# EAGLE library part NUCLEO_L432KC (library nucleo32.Ibr)
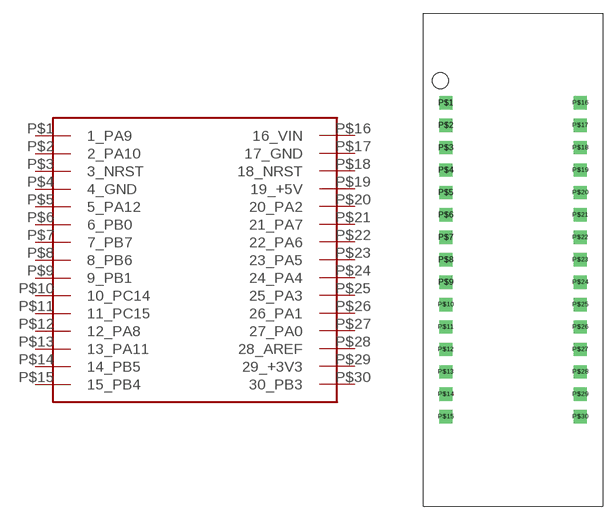
[diagram p0: symbol with the pads of NUCLEO_L432KC; footprint NUCLEO_L432KC]

Designator prefix -

## NUCLEO_L432KC  [NUCLEO_L432KC]
P$1  1_PA9
P$2  2_PA10
P$3  3_NRST
P$4  4_GND  pwr
P$5  5_PA12
P$6  6_PB0
P$7  7_PB7
P$8  8_PB6
P$9  9_PB1
P$10  10_PC14
P$11  11_PC15
P$12  12_PA8
P$13  13_PA11
P$14  14_PB5
P$15  15_PB4
P$16  16_VIN  pwr
P$17  17_GND  pwr
P$18  18_NRST
P$19  19_+5V  pwr
P$20  20_PA2
P$21  21_PA7
P$22  22_PA6
P$23  23_PA5
P$24  24_PA4
P$25  25_PA3
P$26  26_PA1
P$27  27_PA0
P$28  28_AREF
P$29  29_+3V3  pwr
P$30  30_PB3

## Footprint NUCLEO_L432KC (pad centres in mm)
drill 1 square: P$1 2.54,-2.54; P$2 2.54,-5.08; P$3 2.54,-7.62; P$4 2.54,-10.16; P$5 2.54,-12.7; P$6 2.54,-15.24; P$7 2.54,-17.78; P$8 2.54,-20.32; P$9 2.54,-22.86; P$10 2.54,-25.4; P$11 2.54,-27.94; P$12 2.54,-30.48; P$13 2.54,-33.02; P$14 2.54,-35.56; P$15 2.54,-38.1; P$16 17.78,-2.54; P$17 17.78,-5.08; P$18 17.78,-7.62; P$19 17.78,-10.16; P$20 17.78,-12.7; P$21 17.78,-15.24; P$22 17.78,-17.78; P$23 17.78,-20.32; P$24 17.78,-22.86; P$25 17.78,-25.4; P$26 17.78,-27.94; P$27 17.78,-30.48; P$28 17.78,-33.02; P$29 17.78,-35.56; P$30 17.78,-38.1